# EAGLE library part PS21962-ST (library mitsubishi-semiconductor)
600V/5A low-loss 5th generation IGBT inverter bridge for three phase DC-to-AC power conversion Open emitter type Source: Data sheet <http://www.mitsubishichips.com/Global/content/product/powermod/powermod/dipipm/dipipmv4/ps21962-st_e.pdf>
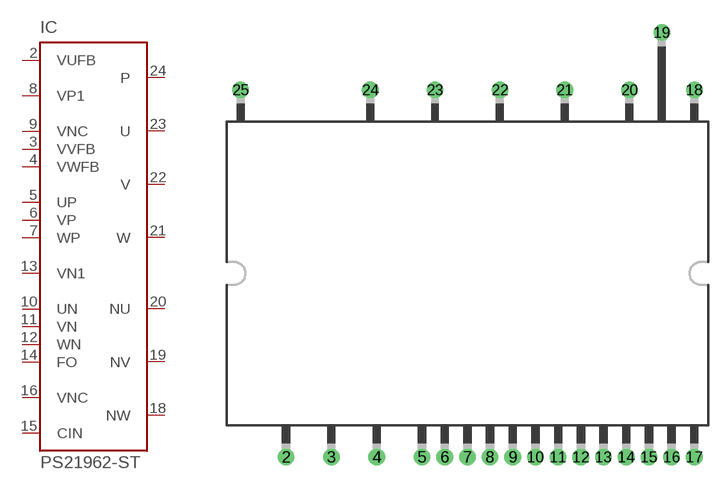
[diagram p0: symbol with the pads of PS21962-ST; footprint PS21962-ST]

Designator prefix IC

## PS21962-ST (OC_FARNELL: unknown; OC_NEWARK: unknown)  [PS21962-ST]
2  VUFB  in
3  VVFB  in
4  VWFB  in
5  UP  in
6  VP  in
7  WP  in
8  VP1  in
9  VNC  in
10  UN  in
11  VN  in
12  WN  in
13  VN1  in
14  FO  in
15  CIN  pas
16  VNC  in
18  NW  out
19  NV  out
20  NU  out
21  W  oc
22  V  oc
23  U  oc
24  P  oc

## Footprint PS21962-ST (pad centres in mm)
DIPIPM 25 Source: Data sheet <http://www.mitsubishichips.com/Global/content/product/powermod/powermod/dipipm/dipipmv4/ps21962-st_e.pdf>
drill 0.8 pad 1.27: 2 -14.224,-14.4; 3 -10.668,-14.4; 4 -7.112,-14.4; 5 -3.564,-14.4; 6 -1.786,-14.4; 7 -0.008,-14.4; 8 1.77,-14.4; 9 3.548,-14.4; 10 5.326,-14.4; 11 7.104,-14.4; 12 8.882,-14.4; 13 10.66,-14.4; 14 12.438,-14.4; 15 14.216,-14.4; 16 15.994,-14.4; 17 17.772,-14.4; 18 17.78,14.4; 19 15.24,18.9; 20 12.7,14.4; 21 7.62,14.4; 22 2.54,14.4; 23 -2.54,14.4; 24 -7.62,14.4; 25 -17.78,14.4